# Altium footprint library LT3509.PcbLib: 1 footprints
Each footprint in its own frame and in the unit in brackets; x right, y up, seen from the top. Pads: shape width x height; smd on the part's side, far side on the other; paste and mask are expansions set on the pad; w line width, h text height; cw(c..) or ccw(c..) is an arc to the next point about the centre after c.
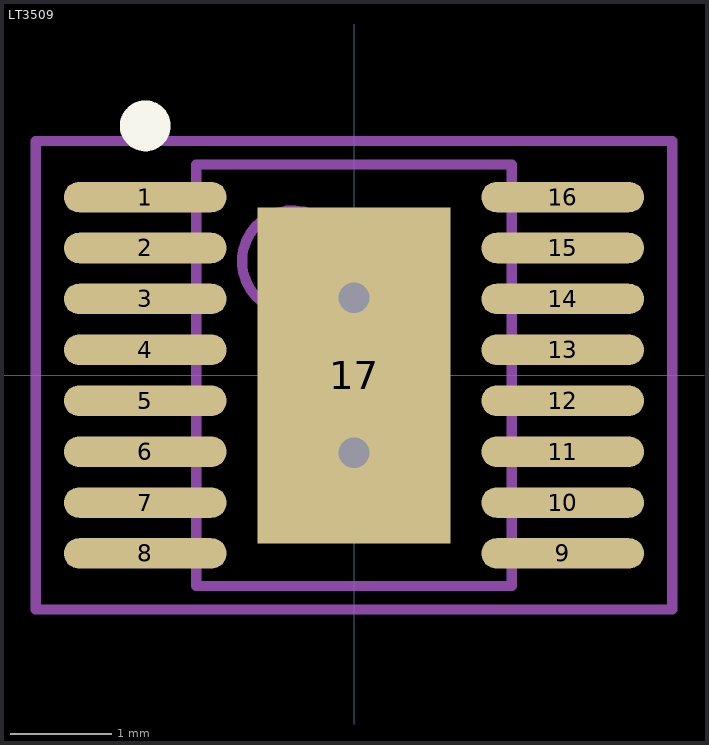
[diagram p0: the footprint, top view; thin cyan lines are the x and y axes]

## LT3509 [mm] "LT3509"
height 1.1
pads (17):
  oval 1.6x0.3 smd: 1(-2.05,1.75) 2(-2.05,1.25) 3(-2.05,0.75) 4(-2.05,0.25) 5(-2.05,-0.25) 6(-2.05,-0.75) 7(-2.05,-1.25) 8(-2.05,-1.75) 9(2.05,-1.75) 10(2.05,-1.25) 11(2.05,-0.75) 12(2.05,-0.25) 13(2.05,0.25) 14(2.05,0.75) 15(2.05,1.25) 16(2.05,1.75)
  rect 1.9x3.3 smd: 17(0,0)
via 0,-0.762 diameter 0.6 hole 0.3
via 0,0.762 diameter 0.6 hole 0.3
Top Overlay:
  circle w0.25: c-2.05,2.45 r0.125
Mechanical 13:
  circle w0.1: c-0.6,1.12 r0.5
  lines w0.1: -1.55,-2.07 1.55,-2.07 1.55,2.07 -1.55,2.07 -1.55,-2.07
Mechanical 15:
  lines w0.1: -0.5,0 0.5,0 ; 0,-0.5 0,0.5 ; -3.125,-2.3 3.125,-2.3 3.125,2.3 -3.125,2.3 -3.125,-2.3
3D body: height 1.1, standoff 0.05, extent -1.55,-2.07 1.55,2.07